# EAGLE library part LIS3DH (library HyperloopOne)
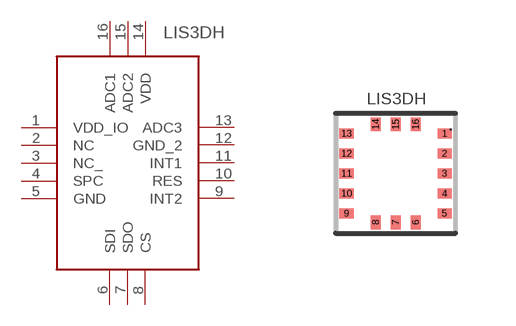
[diagram p0: symbol with the pads of LIS3DH; footprint LIS3DH]

Designator prefix ACC.

## LIS3DH  [LIS3DH]
1  VDD_IO
2  NC
3  NC_
4  SPC
5  GND
6  SDI
7  SDO
8  CS
9  INT2
10  RES
11  INT1
12  GND_2
13  ADC3
14  VDD
15  ADC2
16  ADC1

## Footprint LIS3DH (pad centres in mm)
smd 0.35 x 0.25: 1 1.225,1; 2 1.225,0.5; 3 1.225,0; 4 1.225,-0.5; 5 1.225,-1; 9 -1.225,-1; 10 -1.225,-0.5; 11 -1.225,0; 12 -1.225,0.5; 13 -1.225,1
smd 0.25 x 0.35: 6 0.5,-1.225; 7 0,-1.225; 8 -0.5,-1.225; 14 -0.5,1.225; 15 0,1.225; 16 0.5,1.225